# Altium schematic symbol library schematic_library.SchLib: 24 symbols
Pins are listed as number, name and electrical type; pins without a type are passive.

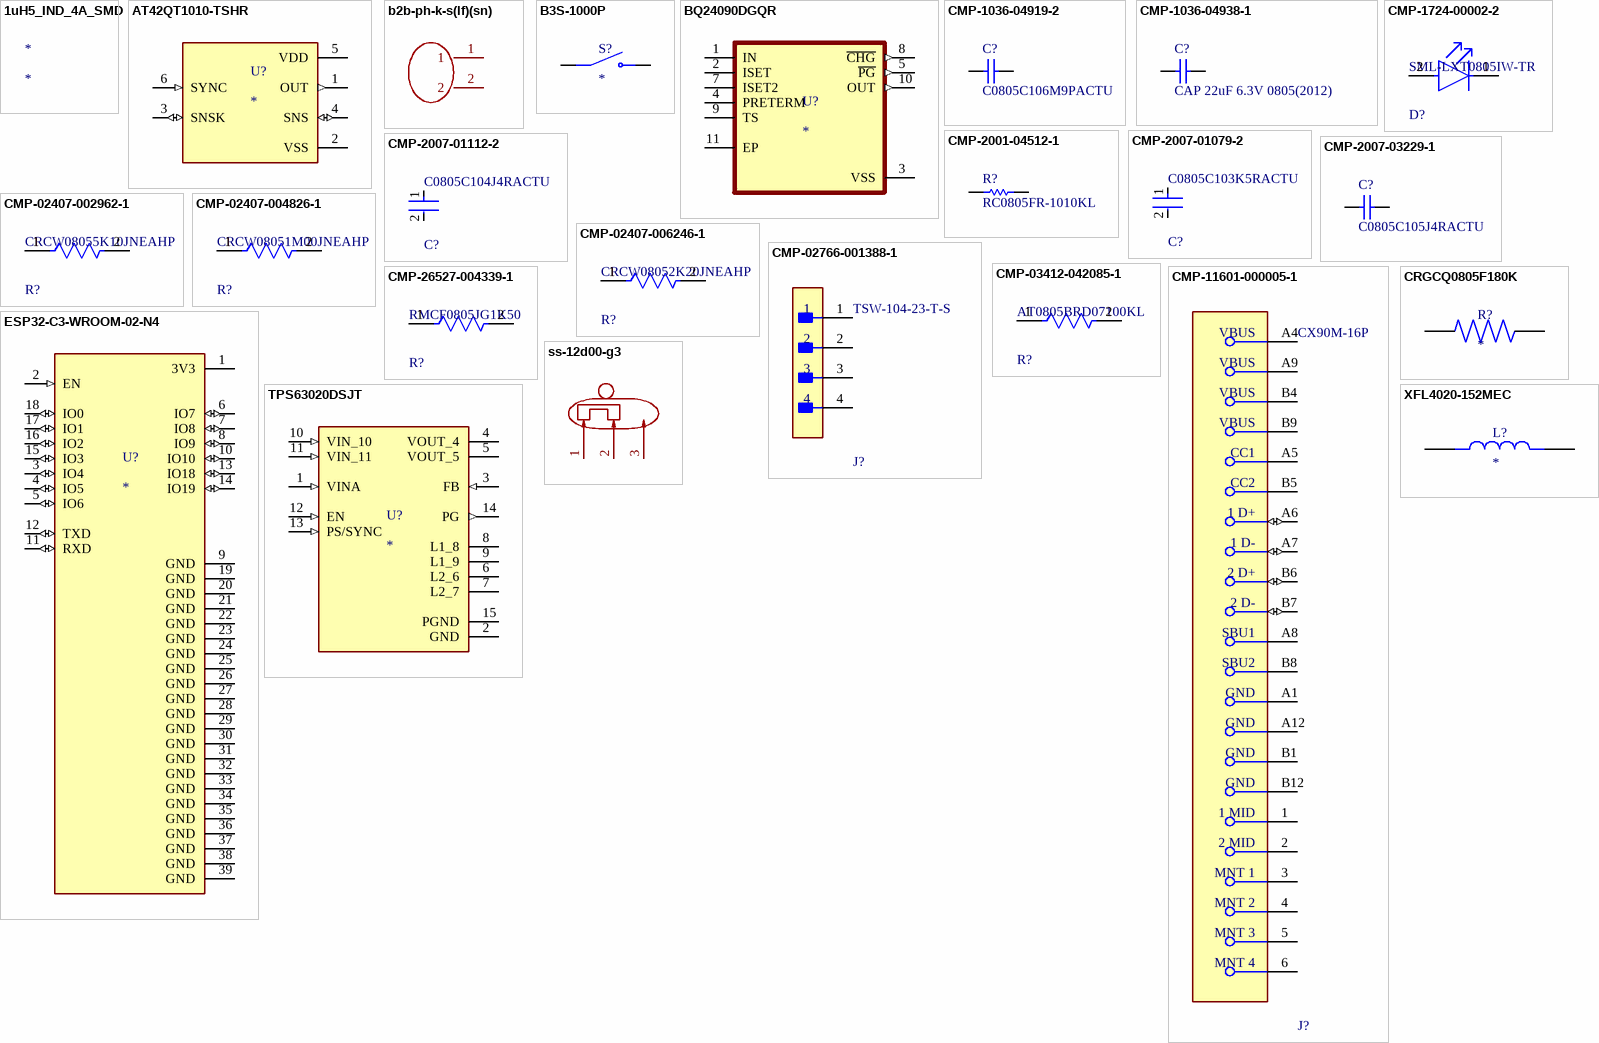
[diagram p0: symbols 1uH5_IND_4A_SMD to XFL4020-152MEC]

## 1uH5_IND_4A_SMD
designator *

## AT42QT1010-TSHR
designator U?
Capacitive Touch Buttons SOT-23-6; MF: Microchip; MP: AT42QT1010-TSHR; SnapEDA_Link: https://www.snapeda.com/parts/AT42QT1010-TSHR/Microchip/view-part/?ref=snap; Package: SOT-23-6 Microchip; Value: *; Check_prices: https://www.snapeda.com/parts/AT42QT1010-TSHR/Microchip/view-part/?ref=eda
footprint SOT95P270X145-6N
pins: 1 OUT (out), 2 VSS (power), 3 SNSK (io), 4 SNS (io), 5 VDD (power), 6 SYNC (in)

## b2b-ph-k-s(lf)(sn)
designator CN??  (value not drawn)
Pins Structure:1x2P Pitch:2mm Mounting Type:Through Hole Reference Series:PH Number of Pins:2P Number of Rows:1 Number of PINs Per Row:2 Row Spacing:- Current Rating:2A Contact Material:Brass Contact Plating:Tin Operating Temperature:-25℃~+85℃ Operating T; Manufacturer: JST; AddInBom: yes; ModelId: 5cc63648eb1041ff813a836ee0942c91; ModelName: CONN-TH_PH2.00-LI-2P; ModelTransform: 236.25937,181.102,0,180,0,0,0,23.622,-137.795; Pins Structure: 1x2P; Pitch: 2mm; Reference Series: PH; Number of PINs Per Row: 2; Current Rating: 2A; Voltage Rating: 100V; Plastic Material: PA66; Flame Retardant Rating: UL94V-0; Supplementary Features: K Pin; Z-Height of the Board: 6mm; X-Length of Bottom Edge on Board (Spacing Line): 5.9mm; Y-Width of Bottom Edge on Board: 4.5mm; Symbol: B2B-PH-K-S(LF)(SN); LCSC Part Name: 1x2P 间距:2mm 直插 系列:PH; SupplierPart: C131337; ManufacturerPart: B2B-PH-K-S(LF)(SN); Supplier Footprint: 插件,P=2mm; JLCPCB Part Class: Extended Part; Datasheet: https://item.szlcsc.com/datasheet/B2B-PH-K-S(LF)(SN)/142630.html; Supplier: LCSC; ConvertToPcb: yes; FootprintName: CONN-TH_B2B-PH-K-S; Mounting Type: Through Hole; Number of Pins: 2P; Number of Rows: 1; Row Spacing: -; Contact Material: Brass; Contact Plating: Tin; Operating Temperature: -25℃~+85℃; Color: White
footprint CONN-TH_B2B-PH-K-S
pins: 1, 2

## B3S-1000P
designator S?
Tactile Switch SPST-NO Top Actuated Surface Mount; MP: B3S-1000P; Value: *; Package: None; Price: None; Availability: Unavailable
footprint SW_B3S-1000P
pins: 1 COM, 2 COM, 3 NO, 4 NO

## BQ24090DGQR
designator U?
1-cell, 1-A, Li-ion linear battery charger w/ 10kÎ© NTC; MF: Texas Instruments; MP: BQ24090DGQR; SnapEDA_Link: https://www.snapeda.com/parts/BQ24090DGQR/Texas+Instruments/view-part/?ref=snap; Package: HVSSOP-10 Texas Instruments; Value: *; Check_prices: https://www.snapeda.com/parts/BQ24090DGQR/Texas+Instruments/view-part/?ref=eda
footprint IC_XTR111AIDGQR
pins: 1 IN, 2 ISET, 3 VSS (power), 4 PRETERM, 5 ~{PG} (out), 7 ISET2, 8 ~{CHG} (out), 9 TS, 10 OUT (out), 11 EP (power)

## CMP-1036-04919-2
designator C?, comment C0805C106M9PACTU
CAP CER 10UF 6.3V X5R 0805; Manufacturer: Kemet; Part Number: C0805C106M9PACTU
footprint CAPC2013X145X50ML20T25 (Chip Capacitor, 2-Leads, Body 2.00x1.25mm, IPC Low Density)
footprint CAPC2013X145X50NL20T25 (Chip Capacitor, 2-Leads, Body 2.00x1.25mm, IPC Medium Density)
footprint CAPC2013X145X50LL20T25 (Chip Capacitor, 2-Leads, Body 2.00x1.25mm, IPC High Density)
pins: 1, 2
1 alternate drawing of the same symbol

## CMP-1036-04938-1
designator C?, comment CAP 22uF 6.3V 0805(2012)
CAP 22uF 6.3V ±10% 0805 (2012 Metric) Thickness 1.45mm SMD; Tolerance: Â±10%; Case-EIA: 0805; Case-Metric: 2012; Technology: SMT; Rated Voltage: 6.3 V; Max Thickness: 1.45 mm; Value: 22uF
footprint CAPC0805(2012)145_N (Chip Capacitor, Body 2.0x1.2mm, Height 1.45mm, IPC Medium Density)
footprint CAPC0805(2012)145_L (Chip Capacitor, Body 2.0x1.2mm, Height 1.45mm, IPC High Density)
footprint CAPC0805(2012)145_M (Chip Capacitor, Body 2.0x1.2mm, Height 1.45mm, IPC Low Density)
pins: 1, 2
1 alternate drawing of the same symbol

## CMP-1724-00002-2
designator D?, comment SML-LXT0805IW-TR
LED RED DIFFUSED SMD; Lens Style: Rectangular; Luminous Intensity: 11mcd; Approvals: UL; Test Current: 20mA; Forward Voltage: 2V; Number of LEDs: 1; Wavelength: 635nm; Lens Color: White; Viewing Angle: 140°; Min Operating Temperature: -25°C; Case Code (Metric): 2012; Mount: Surface Mount; Case Code (Imperial): 0805; Height: 0.8mm; Lead Free: Lead Free; Color: Red; Package Quantity: 1; Illumination Color: Red; Lens Transparency: Diffused; Forward Current: 20mA; Packaging: Tape and Reel; Length: 2mm; Case/Package: 0805; REACH SVHC: No SVHC; Width: 1.25mm; Number of Pins: 2; Max Operating Temperature: 80°C; Dominant Wavelength: 635nm
footprint FP-SML-LXT0805IW-TR-MFG
pins: 1 C, 2 A

## CMP-2001-04512-1
designator R?, comment RC0805FR-1010KL
RES 10K OHM 1% 1/8W 0805; Manufacturer: Yageo; Part Number: RC0805FR-1010KL
footprint RESC2013X60X35LL10T20 (Chip Resistor, 2-Leads, Body 2.00x1.25mm, IPC High Density)
footprint RESC2013X60X35ML10T20 (Chip Resistor, 2-Leads, Body 2.00x1.25mm, IPC Low Density)
footprint RESC2013X60X35NL10T20 (Chip Resistor, 2-Leads, Body 2.00x1.25mm, IPC Medium Density)
pins: 1, 2
1 alternate drawing of the same symbol

## CMP-2007-01079-2
designator C?, comment C0805C103K5RACTU
CAP CER 10000PF 50V X7R 0805; Manufacturer: KEMET; Capacitance: 10,000 pF; Material: Ceramic; Tolerance: 0.1; Value: 10,000 pF; Temperature Coefficient: 30ppm/°C; Temperature: -55°C to +125°C; Device Class L3: Ceramic Capacitors; ComponentLink2URL: https://content.kemet.com/datasheets/KEM_C1003_C0G_SMD.pdf; Temperature Range Low: -55°C; Manufacturer Part Number: C0805C103K5RACTU; Ipc Land Pattern Name: CAPC200125X78; Height: 0.88mm; Temperature Range High: +125°C; Category: Cap; ComponentLink2Description: Datasheet; Octopart: https://octopart.com/c0805c103k5ractu-kemet-90536; Package: C0805C-DN; Device Class L2: Capacitors; Voltage Rating: 50 V; RoHS: TRUE; Automotive: No; Digikey Description: CAP CER 10000PF 50V X7R 0805; Temperature Characteristic: X7R; Device Class L1: Passive Components; Lead Free: Yes
footprint FP-C0805C-DN-IPC_A
footprint FP-C0805C-DN-IPC_C
footprint FP-C0805C-DN-MFG
footprint FP-C0805C-DN-IPC_B
pins: 1, 2

## CMP-2007-01112-2
designator C?, comment C0805C104J4RACTU
CAP CER 0.1UF 16V X7R 0805; Manufacturer: KEMET; Value: 0.10 μF; Material: Ceramic; Temperature Coefficient: 30ppm/°C; Tolerance: 0.05; Mouser Description: Multilayer Ceramic Capacitors MLCC - SMD/SMT 16volts 0.1uF X7R 5%; Device Class L2: Capacitors; Temperature: -55°C to +125°C; RoHS: TRUE; Category: Cap; Octopart: https://octopart.com/c0805c104j4ractu-kemet-12563748; Temperature Range Low: -55°C; ComponentLink2URL: https://content.kemet.com/datasheets/KEM_C1003_C0G_SMD.pdf; Manufacturer Part Number: C0805C104J4RACTU; Ipc Land Pattern Name: CAPC200125X78; Device Class L3: Ceramic Capacitors; Device Class L1: Passive Components; Digikey Description: CAP CER 0.1UF 16V X7R 0805; Temperature Characteristic: X7R; Temperature Range High: +125°C; Package: C0805C-DN; ComponentLink2Description: Datasheet; Capacitance: 0.10 μF; Voltage Rating: 16 V; Height: 0.88mm; Lead Free: Yes; Automotive: No
footprint FP-C0805C-DN-IPC_A
footprint FP-C0805C-DN-IPC_C
footprint FP-C0805C-DN-MFG
footprint FP-C0805C-DN-IPC_B
pins: 1, 2

## CMP-2007-03229-1
designator C?, comment C0805C105J4RACTU
1 µF ±5% 16V Ceramic Capacitor X7R 0805 (2012 Metric); Manufacturer: Kemet; Part Number: C0805C105J4RACTU
footprint CAPC2013X140X50ML20T25 (Chip Capacitor, 2-Leads, Body 2.00x1.25mm, IPC Low Density)
footprint CAPC2013X140X50NL20T25 (Chip Capacitor, 2-Leads, Body 2.00x1.25mm, IPC Medium Density)
footprint CAPC2013X140X50LL20T25 (Chip Capacitor, 2-Leads, Body 2.00x1.25mm, IPC High Density)
pins: 1, 2
1 alternate drawing of the same symbol

## CMP-02407-002962-1
designator R?, comment CRCW08055K10JNEAHP
RES Thick Film, 5.1kΩ, 5%, 0.5W, 200ppm/°C, 0805; Resistance: 5.1kR; Max Power Dissipation: 500mW; Packaging: Tape and Reel; Max Operating Temperature: 155°C; Min Operating Temperature: -55°C; Tolerance: 5%; Temperature Coefficient: 200ppm/°C; Case/Package: 0805; Package Quantity: 5000; Height: 0.024inch; Features: Automotive AEC-Q200; Width: 0.049inch; Length: 0.079inch; Lead Free: Lead Free; Composition: Thick Film; Number of Terminations: 2
footprint FP-CRCW0805-HPe3-IPC_A
footprint FP-CRCW0805-HPe3-IPC_B
footprint FP-CRCW0805-HPe3-MFG
footprint FP-CRCW0805-HPe3-IPC_C
pins: 1, 2

## CMP-02407-004826-1
designator R?, comment CRCW08051M00JNEAHP
RES Thick Film, 1MΩ, 5%, 0.5W, 200ppm/°C, 0805; Power Rating: 330mW; Voltage Rating: 150V; Max Power Dissipation: 333mW; Resistance: 1MR; Case/Package: 0805; Radiation Hardening: No; Packaging: Tape and Reel; Temperature Coefficient: 200ppm/°C; Lead Free: Lead Free; Termination: SMD/SMT; Min Operating Temperature: -55°C; Number of Terminations: 2; Length: 0.079inch; Tolerance: 5%; Features: Automotive AEC-Q200; Max Operating Temperature: 155°C; Weight: 0.000194oz; Case Code (Metric): 2012; Height: 0.024inch; Case Code (Imperial): 0805; Package Quantity: 1; Width: 0.049inch; Contact Plating: Tin; Composition: Thick Film
footprint FP-CRCW0805-HPe3-IPC_A
footprint FP-CRCW0805-HPe3-IPC_B
footprint FP-CRCW0805-HPe3-MFG
footprint FP-CRCW0805-HPe3-IPC_C
pins: 1, 2

## CMP-02407-006246-1
designator R?, comment CRCW08052K20JNEAHP
RES Thick Film, 2.2kΩ, 5%, 0.5W, 200ppm/°C, 0805; Voltage Rating: 150V; Resistance: 2.2kR; Max Power Dissipation: 333mW; Power Rating: 500mW; Package Quantity: 1; Width: 0.049inch; Tolerance: 5%; Case Code (Metric): 2012; Features: Automotive AEC-Q200; Case Code (Imperial): 0805; Height: 0.024inch; Max Operating Temperature: 155°C; Length: 0.079inch; Radiation Hardening: No; Termination: SMD/SMT; Number of Terminations: 2; Case/Package: 0805; Temperature Coefficient: 200ppm/°C; Packaging: Tape and Reel; Weight: 0.000194oz; Contact Plating: Tin; Lead Free: Lead Free; Min Operating Temperature: -55°C; Composition: Thick Film
footprint FP-CRCW0805-HPe3-IPC_A
footprint FP-CRCW0805-HPe3-IPC_B
footprint FP-CRCW0805-HPe3-MFG
footprint FP-CRCW0805-HPe3-IPC_C
pins: 1, 2

## CMP-02766-001388-1
designator J?, comment TSW-104-23-T-S
CONN HEADER VERT 4POS 2.54MM; Number of Contacts: 4; Gender: Male; Connector Type: Male Pin; Max Voltage Rating (AC): 550V; Max Current Rating: 7.6A; Radiation Hardening: No; Lead Free: Lead Free; RoHS Compliant: Yes; Contact Material: Bronze; Number of Positions: 4; Housing Color: Black; Min Operating Temperature: -55°C; Mount: Through Hole; Number of Rows: 1; Orientation: Straight; Contact Mating Length: 0.23inch; Contact Type: Male Pin; REACH SVHC: No SVHC; Max Operating Temperature: 105°C; Color: Black; Pitch: 2.54mm; Length: 10.16mm; Series: TSW; Packaging: Bulk; Contact Plating: Tin; Package Quantity: 1; Termination: Solder; Housing Material: Polyester; Width: 2.54mm; Depth: 2.54mm
footprint FP-TSW-104-23-T-S-MFG
pins: 1, 2, 3, 4

## CMP-03412-042085-1
designator R?, comment AT0805BRD07100KL
Thin Film Chip Resistors Automotive Grade 100kΩ 0.1% 25ppm/°C 0805; Max Power Dissipation: 125mW; Resistance: 100kR; Max Operating Temperature: 155°C; Length: 0.079inch; RoHS Compliant: Yes; Packaging: Tape and Reel; Min Operating Temperature: -55°C; Case/Package: 0805; Tolerance: 0.1%; Number of Terminations: 2; Temperature Coefficient: 25ppm/°C; Height: 0.024inch; Series: AT; Features: Moisture Resistant; Width: 0.049inch; Resistor Type: Thin Film
footprint FP-AT0805-IPC_A
footprint FP-AT0805-IPC_B
footprint FP-AT0805-MFG
footprint FP-AT0805-IPC_C
pins: 1, 2

## CMP-11601-000005-1
designator J?, comment CX90M-16P
CONN RCPT USB2.0 TYPEC 16POS SMD; Connector Type: USB; Current Rating: 1.25A; Mating Cycles: 10000; Number of Contacts: 16; Gender: Receptacle; Shielding: Shielded; Number of Ports: 1; Insulation Color: Black; Termination: Solder; Min Operating Temperature: -30°C; Flammability Rating: UL94 V-0; Max Operating Temperature: 85°C; Packaging: Cut Tape; Contact Plating: Gold; Mount: Surface Mount
footprint FP-CX90M-16P-MFG
pins: 1 1 MID, 2 2 MID, 3 MNT 1, 4 MNT 2, 5 MNT 3, 6 MNT 4, A1 GND (power), A4 VBUS (power), A5 CC1, A6 1 D+ (io), A7 1 D- (io), A8 SBU1, A9 VBUS (power), A12 GND (power), B1 GND (power), B4 VBUS (power), B5 CC2, B6 2 D+ (io), B7 2 D- (io), B8 SBU2, B9 VBUS (power), B12 GND

## CMP-26527-004339-1
designator R?, comment RMCF0805JG1K50
1.5kΩ ±5% 0.125W 0805 Thick Film Chip Resistor AEC-Q200 compliant; Resistance: 1.5kR; Temperature Coefficient: 200ppm/°C; Max Power Dissipation: 125mW; Contact Plating: Tin; Resistor Type: Thick Film; Min Operating Temperature: -55°C; Height: 0.026inch; Radiation Hardening: No; Length: 0.079inch; Case/Package: 0805; Mount: Surface Mount; Width: 0.049inch; Number of Terminations: 2; RoHS Compliant: Yes; Series: RMCF; Max Operating Temperature: 155°C; Packaging: Tape and Reel; Features: Automotive AEC-Q200; Tolerance: 5%
footprint FP-RMCF0805-MFG
footprint FP-RMCF0805-IPC_A
footprint FP-RMCF0805-IPC_B
footprint FP-RMCF0805-IPC_C
pins: 1, 2

## CRGCQ0805F180K
designator R?
180 kOhms Â±1% 0.125W, 1/8W Chip Resistor 0805 (2012 Metric) Automotive AEC-Q200, Moisture Resistant Thick Film; MF: TE Connectivity; MP: CRGCQ0805F180K; SnapEDA_Link: https://www.snapeda.com/parts/CRGCQ0805F180K/TE+Connectivity+Passive+Product/view-part/?ref=snap; Package: 2012 TE Connectivity; Value: *; Check_prices: https://www.snapeda.com/parts/CRGCQ0805F180K/TE+Connectivity+Passive+Product/view-part/?ref=eda
footprint RESC2012X65N
pins: 1, 2

## ESP32-C3-WROOM-02-N4
designator U?
WiFi Modules (802.11) (Engineering Samples) SMD module, ESP32-C3, 4MB SPI flash, PCB antenna, -40 C +85 C; MF: Espressif Systems; MP: ESP32-C3-WROOM-02-N4; Value: *; SnapEDA_Link: https://www.snapeda.com/parts/ESP32-C3-WROOM-02-N4/Espressif+Systems/view-part/?ref=snap; Purchase-URL: https://pricing.snapeda.com/search/part/ESP32-C3-WROOM-02-N4/?ref=eda; Availability: In Stock; Price: None; Package: Package; Check_prices: https://www.snapeda.com/parts/ESP32-C3-WROOM-02-N4/Espressif+Systems/view-part/?ref=eda
footprint MODULE_ESP32-C3-WROOM-02-H4
pins: 1 3V3 (power), 2 EN (in), 3 IO4 (io), 4 IO5 (io), 5 IO6 (io), 6 IO7 (io), 7 IO8 (io), 8 IO9 (io), 9 GND (power), 10 IO10 (io), 11 RXD (io), 12 TXD (io), 13 IO18 (io), 14 IO19 (io), 15 IO3 (io), 16 IO2 (io), 17 IO1 (io), 18 IO0 (io), 19 GND, 20 GND, 21 GND, 22 GND, 23 GND, 24 GND, 25 GND, 26 GND, 27 GND, 28 GND, 29 GND, 30 GND, 31 GND, 32 GND, 33 GND, 34 GND, 35 GND, 36 GND, 37 GND, 38 GND, 39 GND

## ss-12d00-g3
designator U??  (value not drawn)
Circuit:SPDT Actuator Style:Rectangular Columnar Termination Style:PC Pin Length:8.8mm Width:3.9mm Switch Height:7.2mm Mounting Type:Through Hole Actuator Color:Black Operating Temperature:-35℃~+75℃ Operating Temperature:-35℃~+75℃; Manufacturer: SOFNG(硕方); AddInBom: yes; ModelId: 73abde54055d465790e8480c42fb2657; ModelName: SW-TH_3P-L8.8-W3.9-P2.50_SS12D00G3; ModelTransform: 346.495,153.54304,0,0,0,0,0,0,-102.362; Circuit: SPDT; Switch Height: 7.2mm; Actuator Color: Black; Symbol: SS-12D00-G3; LCSC Part Name: 大型拨动开关; SupplierPart: C22355741; ManufacturerPart: SS-12D00-G3; Supplier Footprint: 插件-3P,8.8x3.9mm; JLCPCB Part Class: Extended Part; Datasheet: https://item.szlcsc.com/datasheet/SS-12D00-G3/23787622.html; Supplier: LCSC; ConvertToPcb: yes; FootprintName: SW-TH_3P-L8.8-W3.9-P2.50_SS12D00G3; Actuator Style: Rectangular Columnar; Termination Style: PC Pin; Length: 8.8mm; Width: 3.9mm; Mounting Type: Through Hole; Operating Temperature: -35℃~+75℃
footprint SW-TH_3P-L8.8-W3.9-P2.50_SS12D00G3
pins: 1, 2, 3

## TPS63020DSJT
designator U?
High Efficiency Single Inductor Buck-Boost Converter with 4A Switch; MF: Texas Instruments; MP: TPS63020DSJT; SnapEDA_Link: https://www.snapeda.com/parts/TPS63020DSJT/Texas+Instruments/view-part/?ref=snap; Package: VSON-14 Texas Instruments; Value: *; Check_prices: https://www.snapeda.com/parts/TPS63020DSJT/Texas+Instruments/view-part/?ref=eda
footprint IC_TPS63020DSJT
pins: 1 VINA (in), 2 GND (power), 3 FB (in), 4 VOUT_4 (power), 5 VOUT_5 (power), 6 L2_6, 7 L2_7, 8 L1_8, 9 L1_9, 10 VIN_10 (in), 11 VIN_11 (in), 12 EN (in), 13 PS/SYNC (in), 14 PG (out), 15 PGND (power)

## XFL4020-152MEC
designator L?
Inductor Power Shielded Wirewound 1.5uH 20% 100KHz 9.1A 15.8mOhm DCR 1515 Automotive Embossed Plastic T/R; MF: Coilcraft; MP: XFL4020-152MEC; SnapEDA_Link: https://www.snapeda.com/parts/XFL4020-152MEC/Coilcraft/view-part/?ref=snap; Package: None; Value: *; Check_prices: https://www.snapeda.com/parts/XFL4020-152MEC/Coilcraft/view-part/?ref=eda
footprint IND_XFL4020-152MEC
pins: 1, 2